# Altium footprint library PcbLib1.PcbLib: 7 footprints
Each footprint in its own frame and in the unit in brackets; x right, y up, seen from the top. Pads: shape width x height; smd on the part's side, far side on the other; paste and mask are expansions set on the pad; w line width, h text height; cw(c..) or ccw(c..) is an arc to the next point about the centre after c.
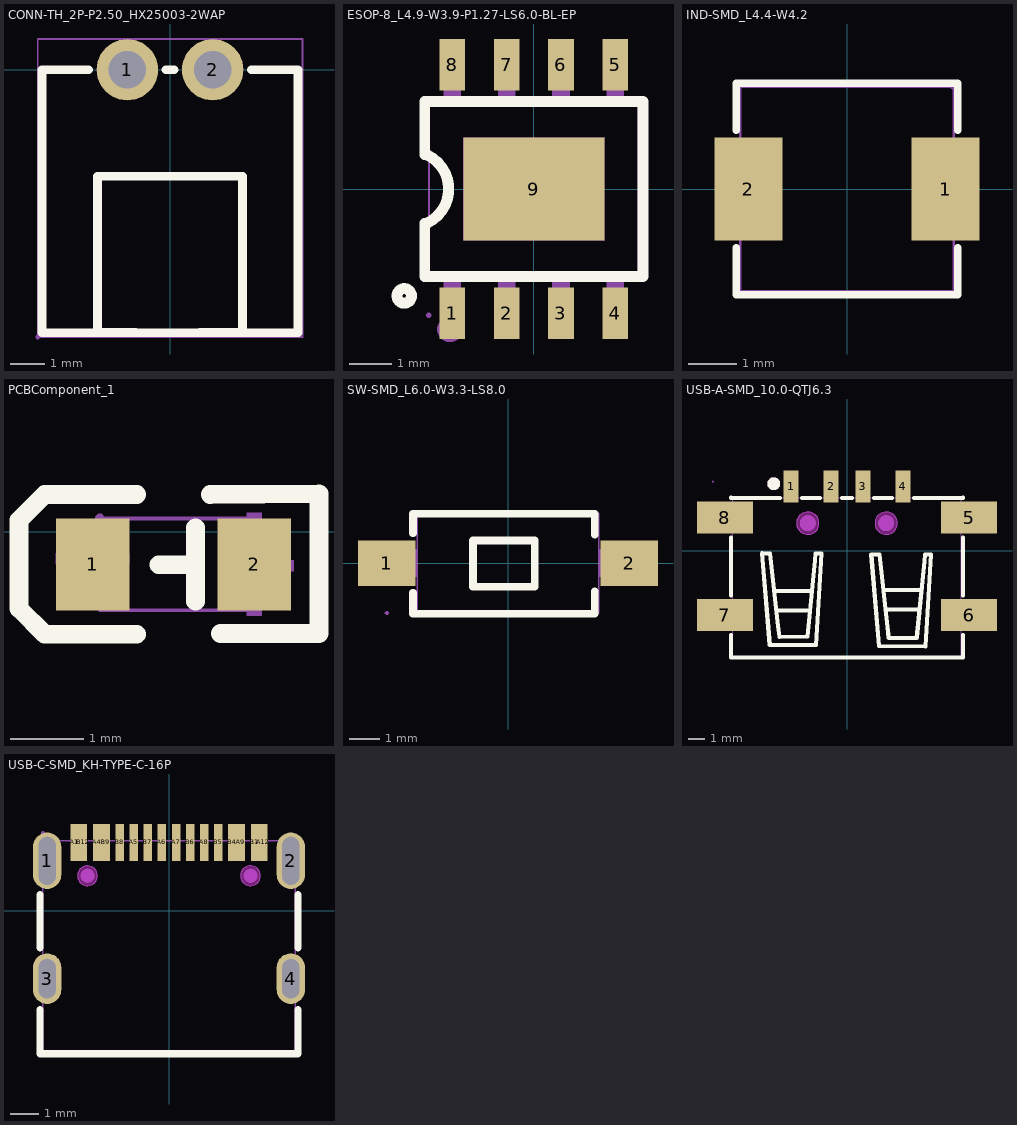
[diagram p0: the footprints below, top view; thin cyan lines are the x and y axes]

## CONN-TH_2P-P2.50_HX25003-2WAP [mm]
pads (2):
  round 1.8 hole 1.1: 1(-1.25,0) 2(1.25,0)
Top Overlay:
  lines w0.254: -2.381,0 -3.75,0 -3.75,-7.7 3.75,-7.7 3.75,0 2.381,0 ; -1.003,-7.699 -2.125,-7.699 -2.125,-3.124 2.124,-3.124 2.124,-7.699 0.874,-7.699 ; -0.119,0 0.119,0
Mechanical 15:
  region: -3.817,-7.827 -3.817,-7.852 -3.852,-7.887 -3.902,-7.887 -3.937,-7.852 -3.937,-7.827 -3.937,-7.802 -3.902,-7.767 -3.852,-7.767 -3.817,-7.802 -3.817,-7.827
  region: 1.7,0 1.7,-0.09 1.632,-0.255 1.505,-0.381 1.34,-0.45 1.161,-0.45 0.995,-0.381 0.869,-0.255 0.8,-0.09 0.8,0 0.8,0.09 0.869,0.255 0.995,0.381 1.161,0.45 1.34,0.45 1.505,0.381 1.632,0.255 1.7,0.09 1.7,0
  region: -0.8,0 -0.8,-0.09 -0.869,-0.255 -0.995,-0.381 -1.161,-0.45 -1.34,-0.45 -1.505,-0.381 -1.632,-0.255 -1.7,-0.09 -1.7,0 -1.7,0.09 -1.632,0.255 -1.505,0.381 -1.34,0.45 -1.161,0.45 -0.995,0.381 -0.869,0.255 -0.8,0.09 -0.8,0
  lines w0.051: -3.877,-7.827 -3.877,0.9 3.877,0.9 3.877,-7.827 -3.877,-7.827

## ESOP-8_L4.9-W3.9-P1.27-LS6.0-BL-EP [mm]
pads (9):
  rect 0.6x1.2 smd: 1(-1.905,-2.908) 2(-0.635,-2.908) 3(0.635,-2.908) 4(1.905,-2.908) 5(1.905,2.908) 6(0.635,2.908) 7(-0.635,2.908) 8(-1.905,2.908)
  rect 3.3x2.4 smd: 9(0,0)
Top Overlay:
  circle w0.254: c-3.03,-2.5 r0.17
  lines w0.254: -2.55,-0.8 -2.55,-2.05 2.55,-2.05 2.55,2.05 -2.55,2.05 -2.55,0.8 ; -2.5,-0.8 ccw(c-2.875,0) -2.5,0.8
Mechanical 6:
  circle w0.3: c-1.96,-3.28 r0.15
Mechanical 15:
  region: -2.394,-2.95 -2.394,-2.975 -2.429,-3.01 -2.479,-3.01 -2.514,-2.975 -2.514,-2.95 -2.514,-2.925 -2.479,-2.89 -2.429,-2.89 -2.394,-2.925 -2.394,-2.95
  region: -2.105,1.94 -2.105,2.31 -1.705,2.31 -1.705,1.94
  region: -2.105,2.3 -2.105,2.95 -1.705,2.95 -1.705,2.3
  region: -0.835,1.94 -0.835,2.31 -0.435,2.31 -0.435,1.94
  region: -0.835,2.3 -0.835,2.95 -0.435,2.95 -0.435,2.3
  region: 0.435,1.94 0.435,2.31 0.835,2.31 0.835,1.94
  region: 0.435,2.3 0.435,2.95 0.835,2.95 0.835,2.3
  region: 1.705,1.94 1.705,2.31 2.105,2.31 2.105,1.94
  region: 1.705,2.3 1.705,2.95 2.105,2.95 2.105,2.3
  region: -2.105,-2.31 -2.105,-1.94 -1.705,-1.94 -1.705,-2.31
  region: -2.105,-2.95 -2.105,-2.3 -1.705,-2.3 -1.705,-2.95
  region: -0.835,-2.31 -0.835,-1.94 -0.435,-1.94 -0.435,-2.31
  region: -0.835,-2.95 -0.835,-2.3 -0.435,-2.3 -0.435,-2.95
  region: 0.435,-2.31 0.435,-1.94 0.835,-1.94 0.835,-2.31
  region: 0.435,-2.95 0.435,-2.3 0.835,-2.3 0.835,-2.95
  region: 1.705,-2.31 1.705,-1.94 2.105,-1.94 2.105,-2.31
  region: 1.705,-2.95 1.705,-2.3 2.105,-2.3 2.105,-2.95
  region: 1.65,-1.2 -1.65,-1.2 -1.65,1.2 1.65,1.2
  lines w0.051: -2.45,-1.95 2.45,-1.95 2.45,1.95 -2.45,1.95 -2.45,-1.95

## IND-SMD_L4.4-W4.2 [mm]
pads (2):
  rect 1.4x2.12 smd: 1(2.028,0) 2(-2.028,0)
Top Overlay:
  lines w0.152: -2.276,-1.212 -2.276,-2.176 2.276,-2.176 2.276,-1.212 ; -2.276,1.212 -2.276,2.176 2.276,2.176 2.276,1.212
Mechanical 15:
  region: 2.26,2.1 2.26,2.075 2.225,2.04 2.175,2.04 2.14,2.075 2.14,2.1 2.14,2.125 2.175,2.16 2.225,2.16 2.26,2.125 2.26,2.1
  region: 1.4,1 2.2,1 2.2,-1 1.4,-1
  region: -2.2,1 -1.4,1 -1.4,-1 -2.2,-1
  lines w0.051: -2.2,-2.1 -2.2,2.1 2.2,2.1 2.2,-2.1 -2.2,-2.1

## PCBComponent_1 [mm]
pads (2):
  rect 1x1.25 smd: 1(12.049,-0.447) 2(14.249,-0.447)
Top Overlay:
  lines w0.254: 12.649,-1.397 11.399,-1.397 ; 12.649,0.503 11.399,0.503 ; 12.949,-0.452 13.449,-0.452 ; 13.449,-0.947 13.449,0.053 ; 13.649,0.503 15.129,0.513 15.129,-1.387 13.789,-1.387 ; 11.399,-1.397 11.399,-1.397 ; 11.399,-1.397 11.049,-1.047 11.049,0.153 11.399,0.503 ; 11.399,0.503 11.399,0.503
Mechanical 6:
  region: 14.149,0.253 14.349,0.253 14.349,-1.147 14.149,-1.147
  region: 13.784,-0.541 14.784,-0.541 14.784,-0.391 13.784,-0.391
  region: 11.549,-0.447 12.549,-0.447 12.549,-0.297 11.549,-0.297
Mechanical 15:
  region: 12.209,0.178 12.209,0.153 12.174,0.118 12.124,0.118 12.089,0.153 12.089,0.178 12.089,0.203 12.124,0.238 12.174,0.238 12.209,0.203
  region: 14.149,-1.072 13.799,-1.072 13.799,0.178 14.149,0.178
  region: 12.499,-1.072 12.149,-1.072 12.149,0.178 12.499,0.178
  lines w0.051: 12.149,-1.072 12.149,0.178 14.149,0.178 14.149,-1.072 12.149,-1.072

## SW-SMD_L6.0-W3.3-LS8.0 [mm]
pads (2):
  rect 1.9x1.5 smd: 1(-4,0) 2(4,0)
Top Overlay:
  lines w0.254: -3.137,-0.981 -3.137,-1.668 2.863,-1.668 2.863,-0.935 ; -3.137,0.981 -3.137,1.632 2.863,1.632 2.863,0.935 ; -1.153,-0.78 -1.153,0.744 0.879,0.744 0.879,-0.78 -1.153,-0.78
Mechanical 15:
  region: -3.62,-0.45 -3.62,0.45 -2.99,0.45 -2.99,-0.45
  region: 3.62,0.45 3.62,-0.45 2.99,-0.45 2.99,0.45
  region: 3.3,-0.45 3.3,0.45 4,0.45 4,-0.45
  region: -3.999,-0.45 -3.999,0.45 -3.299,0.45 -3.299,-0.45
  region: -3.939,-1.65 -3.939,-1.675 -3.974,-1.71 -4.024,-1.71 -4.059,-1.675 -4.059,-1.65 -4.059,-1.625 -4.024,-1.59 -3.974,-1.59 -3.939,-1.625 -3.939,-1.65
  lines w0.051: -3,-1.65 3,-1.65 3,1.65 -3,1.65 -3,-1.65

## USB-A-SMD_10.0-QTJ6.3 [mm]
pads (8):
  rect 0.92x2 smd: 1(-3.5,4.025) 2(-1,4.025) 3(1,4.025) 4(3.5,4.025)
  rect 3.5x2 smd: 5(7.625,2.075) 6(7.625,-4.025) 7(-7.625,-4.025) 8(-7.625,2.075)
Top Overlay:
  circle w0.4: c-4.572,4.191 r0.2
  lines w0.254: -7.25,-5.256 -7.25,-6.675 7.25,-6.675 7.25,-5.256 ; -7.25,-2.794 -7.25,0.844 ; -7.25,3.325 -7.25,3.306 -4.191,3.306 ; -4.486,-2.52 -2.225,-2.52 ; -4.346,-3.73 -2.316,-3.73 ; -2.809,3.306 -1.691,3.306 ; -0.309,3.306 0.309,3.306 ; 1.691,3.306 2.809,3.306 ; 2.364,-2.449 4.624,-2.449 ; 2.504,-3.659 4.534,-3.659 ; 4.191,3.306 7.25,3.306 7.25,3.325 ; 7.25,-2.794 7.25,0.844 ; -5.323,-0.153 -4.815,-0.157 -4.304,-4.697 -4.229,-5.375 -2.479,-5.365 -2.005,-0.586 -1.975,-0.156 -1.595,-0.156 -1.945,-5.899 -4.828,-5.888 -5.323,-0.153 ; 1.516,-0.223 2.025,-0.226 2.535,-4.767 2.61,-5.445 4.36,-5.434 4.834,-0.656 4.864,-0.226 5.244,-0.226 4.894,-5.969 2.011,-5.958 1.516,-0.223
Keep-Out Layer:
  board cut-out: 3.15,1.724 3.15,1.632 3.102,1.454 3.01,1.294 2.88,1.164 2.72,1.072 2.542,1.024 2.358,1.024 2.18,1.072 2.02,1.164 1.89,1.294 1.798,1.454 1.75,1.632 1.75,1.724 1.75,1.816 1.798,1.994 1.89,2.154 2.02,2.284 2.18,2.376 2.358,2.424 2.542,2.424 2.72,2.376 2.88,2.284 3.01,2.154 3.102,1.994 3.15,1.816 3.15,1.724
  board cut-out: -1.75,1.724 -1.75,1.632 -1.798,1.454 -1.89,1.294 -2.02,1.164 -2.18,1.072 -2.358,1.024 -2.542,1.024 -2.72,1.072 -2.88,1.164 -3.01,1.294 -3.102,1.454 -3.15,1.632 -3.15,1.724 -3.15,1.816 -3.102,1.994 -3.01,2.154 -2.88,2.284 -2.72,2.376 -2.542,2.424 -2.358,2.424 -2.18,2.376 -2.02,2.284 -1.89,2.154 -1.798,1.994 -1.75,1.816 -1.75,1.724
Keep-Out Layer:
  circle w0.025: c2.45,1.724 r0.7
  circle w0.025: c-2.45,1.724 r0.7
  region: 3.15,1.724 3.15,1.632 3.102,1.454 3.01,1.294 2.88,1.164 2.72,1.072 2.542,1.024 2.358,1.024 2.18,1.072 2.02,1.164 1.89,1.294 1.798,1.454 1.75,1.632 1.75,1.724 1.75,1.816 1.798,1.994 1.89,2.154 2.02,2.284 2.18,2.376 2.358,2.424 2.542,2.424 2.72,2.376 2.88,2.284 3.01,2.154 3.102,1.994 3.15,1.816 3.15,1.724
  region: -1.75,1.724 -1.75,1.632 -1.798,1.454 -1.89,1.294 -2.02,1.164 -2.18,1.072 -2.358,1.024 -2.542,1.024 -2.72,1.072 -2.88,1.164 -3.01,1.294 -3.102,1.454 -3.15,1.632 -3.15,1.724 -3.15,1.816 -3.102,1.994 -3.01,2.154 -2.88,2.284 -2.72,2.376 -2.542,2.424 -2.358,2.424 -2.18,2.376 -2.02,2.284 -1.89,2.154 -1.798,1.994 -1.75,1.816 -1.75,1.724
Mechanical 1:
  circle w0.025: c2.45,1.724 r0.7
  circle w0.025: c-2.45,1.724 r0.7
Mechanical 6:
  circle w0.4: c-4.572,4.191 r0.2
  circle w0.5: c-2.45,1.724 r0.25
  circle w0.5: c2.45,1.724 r0.25
Mechanical 15:
  region: -3.75,4.325 -3.25,4.325 -3.25,3.125 -3.75,3.125
  region: -1.25,4.325 -0.75,4.325 -0.75,3.125 -1.25,3.125
  region: 0.75,4.325 1.25,4.325 1.25,3.125 0.75,3.125
  region: 3.25,4.325 3.75,4.325 3.75,3.125 3.25,3.125
  region: -6.875,-4.525 -8.375,-4.525 -8.375,-3.525 -6.875,-3.525
  region: -6.875,1.575 -8.375,1.575 -8.375,2.575 -6.875,2.575
  region: 8.375,1.575 6.875,1.575 6.875,2.575 8.375,2.575
  region: 8.375,-4.525 6.875,-4.525 6.875,-3.525 8.375,-3.525
  region: -8.315,4.325 -8.315,4.3 -8.35,4.265 -8.4,4.265 -8.435,4.3 -8.435,4.325 -8.435,4.35 -8.4,4.385 -8.35,4.385 -8.315,4.35 -8.315,4.325
  lines w0.051: -7.15,-6.675 -7.15,3.325 7.15,3.325 7.15,-6.675 -7.15,-6.675

## USB-C-SMD_KH-TYPE-C-16P [mm]
pads (20):
  oval 1x2 hole 0.6 slot 1.7 at 90 deg: 1(-4.32,1.765) 2(4.32,1.765)
  oval 1x1.8 hole 0.6 slot 1.4 at 90 deg: 3(-4.32,-2.415) 4(4.32,-2.415)
  rect 0.3x1.3 smd paste-100 mask+0.05: A1(-3.35,2.415) A4(-2.55,2.415) A5(-1.25,2.415) A6(-0.25,2.415) A7(0.25,2.415) A8(1.25,2.415) A9(2.55,2.415) A12(3.35,2.415) B1(3.05,2.415) B4(2.25,2.415) B5(1.75,2.415) B6(0.75,2.415) B7(-0.75,2.415) B8(-1.75,2.415) B9(-2.25,2.415) B12(-3.05,2.415)
Top Overlay:
  lines w0.254: -4.572,-3.507 -4.572,-5.08 4.572,-5.08 4.572,-3.507 ; -4.572,-1.323 -4.572,0.573 ; 4.572,-1.323 4.572,0.573
Top Paste:
  drawing of 16 lines, arcs and shapes, not listed
Keep-Out Layer:
  board cut-out: 3.24,1.235 3.24,1.165 3.187,1.037 3.088,0.938 2.96,0.885 2.82,0.885 2.692,0.938 2.593,1.037 2.54,1.165 2.54,1.235 2.54,1.305 2.593,1.433 2.692,1.532 2.82,1.585 2.96,1.585 3.088,1.532 3.187,1.433 3.24,1.305 3.24,1.235
  board cut-out: -2.54,1.235 -2.54,1.165 -2.593,1.037 -2.692,0.938 -2.82,0.885 -2.96,0.885 -3.088,0.938 -3.187,1.037 -3.24,1.165 -3.24,1.235 -3.24,1.305 -3.187,1.433 -3.088,1.532 -2.96,1.585 -2.82,1.585 -2.692,1.532 -2.593,1.433 -2.54,1.305 -2.54,1.235
Keep-Out Layer:
  circle w0.025: c2.89,1.235 r0.35
  circle w0.025: c-2.89,1.235 r0.35
  region: 3.24,1.235 3.24,1.165 3.187,1.037 3.088,0.938 2.96,0.885 2.82,0.885 2.692,0.938 2.593,1.037 2.54,1.165 2.54,1.235 2.54,1.305 2.593,1.433 2.692,1.532 2.82,1.585 2.96,1.585 3.088,1.532 3.187,1.433 3.24,1.305 3.24,1.235
  region: -2.54,1.235 -2.54,1.165 -2.593,1.037 -2.692,0.938 -2.82,0.885 -2.96,0.885 -3.088,0.938 -3.187,1.037 -3.24,1.165 -3.24,1.235 -3.24,1.305 -3.187,1.433 -3.088,1.532 -2.96,1.585 -2.82,1.585 -2.692,1.532 -2.593,1.433 -2.54,1.305 -2.54,1.235
Mechanical 1:
  circle w0.025: c2.89,1.235 r0.35
  circle w0.025: c-2.89,1.235 r0.35
Mechanical 6:
  circle w0.25: c2.89,1.235 r0.125
  circle w0.25: c-2.89,1.235 r0.125
Mechanical 15:
  region: -3.2,2.76 -3,2.76 -3,1.76 -3.2,1.76
  region: -3.4,2.76 -3.2,2.76 -3.2,1.76 -3.4,1.76
  region: -2.4,2.76 -2.2,2.76 -2.2,1.76 -2.4,1.76
  region: -2.6,2.76 -2.4,2.76 -2.4,1.76 -2.6,1.76
  region: 2.4,2.76 2.6,2.76 2.6,1.76 2.4,1.76
  region: 2.2,2.76 2.4,2.76 2.4,1.76 2.2,1.76
  region: 3.2,2.76 3.4,2.76 3.4,1.76 3.2,1.76
  region: 3,2.76 3.2,2.76 3.2,1.76 3,1.76
  region: -1.85,2.76 -1.65,2.76 -1.65,1.76 -1.85,1.76
  region: -1.35,2.76 -1.15,2.76 -1.15,1.76 -1.35,1.76
  region: -0.85,2.76 -0.65,2.76 -0.65,1.76 -0.85,1.76
  region: -0.35,2.76 -0.15,2.76 -0.15,1.76 -0.35,1.76
  region: 0.15,2.76 0.35,2.76 0.35,1.76 0.15,1.76
  region: 0.65,2.76 0.85,2.76 0.85,1.76 0.65,1.76
  region: 1.65,2.76 1.85,2.76 1.85,1.76 1.65,1.76
  region: 1.15,2.76 1.35,2.76 1.35,1.76 1.15,1.76
  region: 4.17,-2.015 4.47,-2.015 4.47,-2.815 4.17,-2.815
  region: -4.47,-2.015 -4.17,-2.015 -4.17,-2.815 -4.47,-2.815
  region: 4.17,2.315 4.47,2.315 4.47,1.215 4.17,1.215
  region: -4.47,2.315 -4.17,2.315 -4.17,1.215 -4.47,1.215
  region: -4.41,2.76 -4.41,2.735 -4.445,2.7 -4.495,2.7 -4.53,2.735 -4.53,2.76 -4.53,2.785 -4.495,2.82 -4.445,2.82 -4.41,2.785 -4.41,2.76
  lines w0.051: -4.47,-5.08 4.47,-5.08 4.47,2.47 -4.47,2.47 -4.47,-5.08